# Altium schematic symbol library Capacitor.SchLib: 1 symbol
Pins are listed as number, name and electrical type; pins without a type are passive.

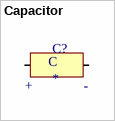
[diagram p0: symbol Capacitor]

## Capacitor
designator C?
footprint Capacitor
footprint Capacitor
footprint Capacitor
footprint Capacitor
pins: 0 *, 1 *
text: C; +; -